# Altium schematic symbol library Driver.SchLib: 7 symbols
Pins are listed as number, name and electrical type; pins without a type are passive.

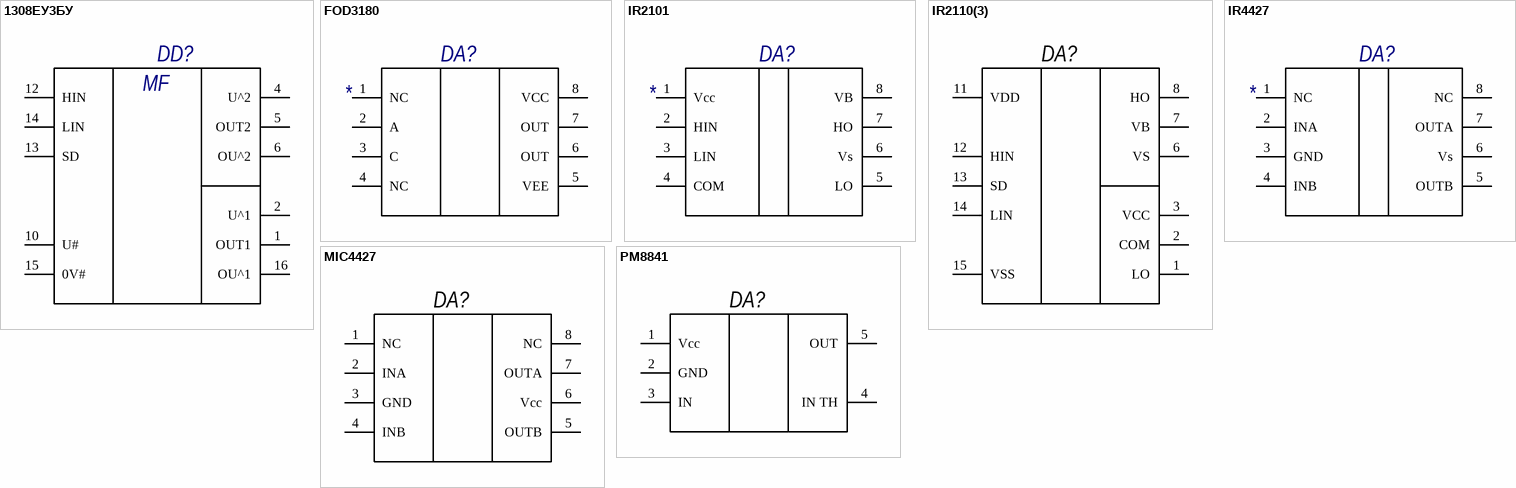
[diagram p0: symbols 1308ЕУ3БУ to PM8841]

## 1308ЕУ3БУ
designator DD?, comment Драйвер  (value not drawn)
footprint Н04.16-2В
pins: 1 OUT1, 2 U^1, 4 U^2, 5 OUT2, 6 OU^2, 10 U#, 12 HIN, 13 SD, 14 LIN, 15 0V#, 16 OU^1
text: MF

## FOD3180
designator DA?
pins: 1 NC, 2 A, 3 C, 4 NC, 5 VEE, 6 OUT, 7 OUT, 8 VCC

## IR2101
designator DA?
pins: 1 Vcc, 2 HIN, 3 LIN, 4 COM, 5 LO, 6 Vs, 7 HO, 8 VB

## IR2110(3)
designator DA?
pins: 1 LO, 2 COM, 3 VCC, 6 VS, 7 VB, 8 HO, 11 VDD, 12 HIN, 13 SD, 14 LIN, 15 VSS

## IR4427
designator DA?
pins: 1 NC, 2 INA, 3 GND, 4 INB, 5 OUTB, 6 Vs, 7 OUTA, 8 NC

## MIC4427
designator DA?
pins: 1 NC, 2 INA, 3 GND, 4 INB, 5 OUTB, 6 Vcc, 7 OUTA, 8 NC

## PM8841
designator DA?
pins: 1 Vcc, 2 GND, 3 IN, 4 IN TH, 5 OUT